# EAGLE library part FHP-14-01-XX-S (library 000_ICS)
.156 HI POWER SOCKET ASSEMBLY.
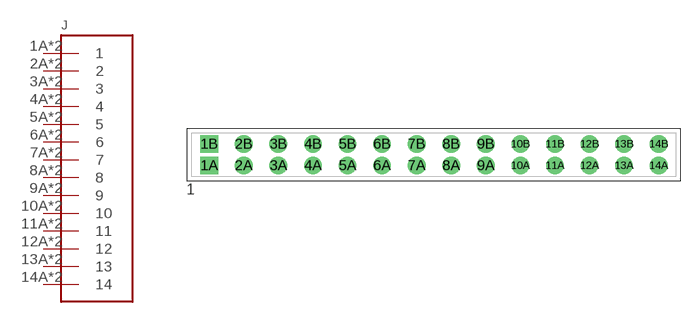
[diagram p2: symbol with the pads of FHP14-01-XX-S; footprint FHP14-01-XX-S]

Designator prefix J

## FHP-14-01-XX-S (1PC: 3.34; HEIGHT: 9; MFR: SAMTEC; MPN: FHP-14-01-T-S)  [FHP14-01-XX-S]
1A  1
1B  1
2A  2
2B  2
3A  3
3B  3
4A  4
4B  4
5A  5
5B  5
6A  6
6B  6
7A  7
7B  7
8A  8
8B  8
9A  9
9B  9
10A  10
10B  10
11A  11
11B  11
12A  12
12B  12
13A  13
13B  13
14A  14
14B  14

## Footprint FHP14-01-XX-S (pad centres in mm)
.156 HI POWER SOCKET ASSEMBLY.
drill 1.346 pad 2.032 square: 1A -25.756,-1.232; 1B -25.756,1.232
drill 1.346 pad 2.032: 2A -21.793,-1.232; 2B -21.793,1.232; 3A -17.831,-1.232; 3B -17.831,1.232; 4A -13.868,-1.232; 4B -13.868,1.232; 5A -9.906,-1.232; 5B -9.906,1.232; 6A -5.944,-1.232; 6B -5.944,1.232; 7A -1.981,-1.232; 7B -1.981,1.232; 8A 1.981,-1.232; 8B 1.981,1.232; 9A 5.944,-1.232; 9B 5.944,1.232; 10A 9.906,-1.232; 10B 9.906,1.232; 11A 13.868,-1.232; 11B 13.868,1.232; 12A 17.831,-1.232; 12B 17.831,1.232; 13A 21.793,-1.232; 13B 21.793,1.232; 14A 25.756,-1.232; 14B 25.756,1.232